# Altium schematic symbol library Crystals-XTAL.SchLib: 4 symbols
Pins are listed as number, name and electrical type; pins without a type are passive.

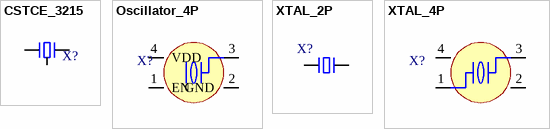
[diagram p0: symbols CSTCE_3215 to XTAL_4P]

## CSTCE_3215
designator X?
pins: 1, 2, 3

## Oscillator_4P
designator X?
pins: 1 EN, 2 GND, 3, 4 VDD

## XTAL_2P
designator X?
pins: 1, 2

## XTAL_4P
designator X?
pins: 1, 2 GND, 3, 4 GND